# Altium footprint library PcbLib1.PcbLib: 10 footprints
Each footprint in its own frame and in the unit in brackets; x right, y up, seen from the top. Pads: shape width x height; smd on the part's side, far side on the other; paste and mask are expansions set on the pad; w line width, h text height; cw(c..) or ccw(c..) is an arc to the next point about the centre after c.
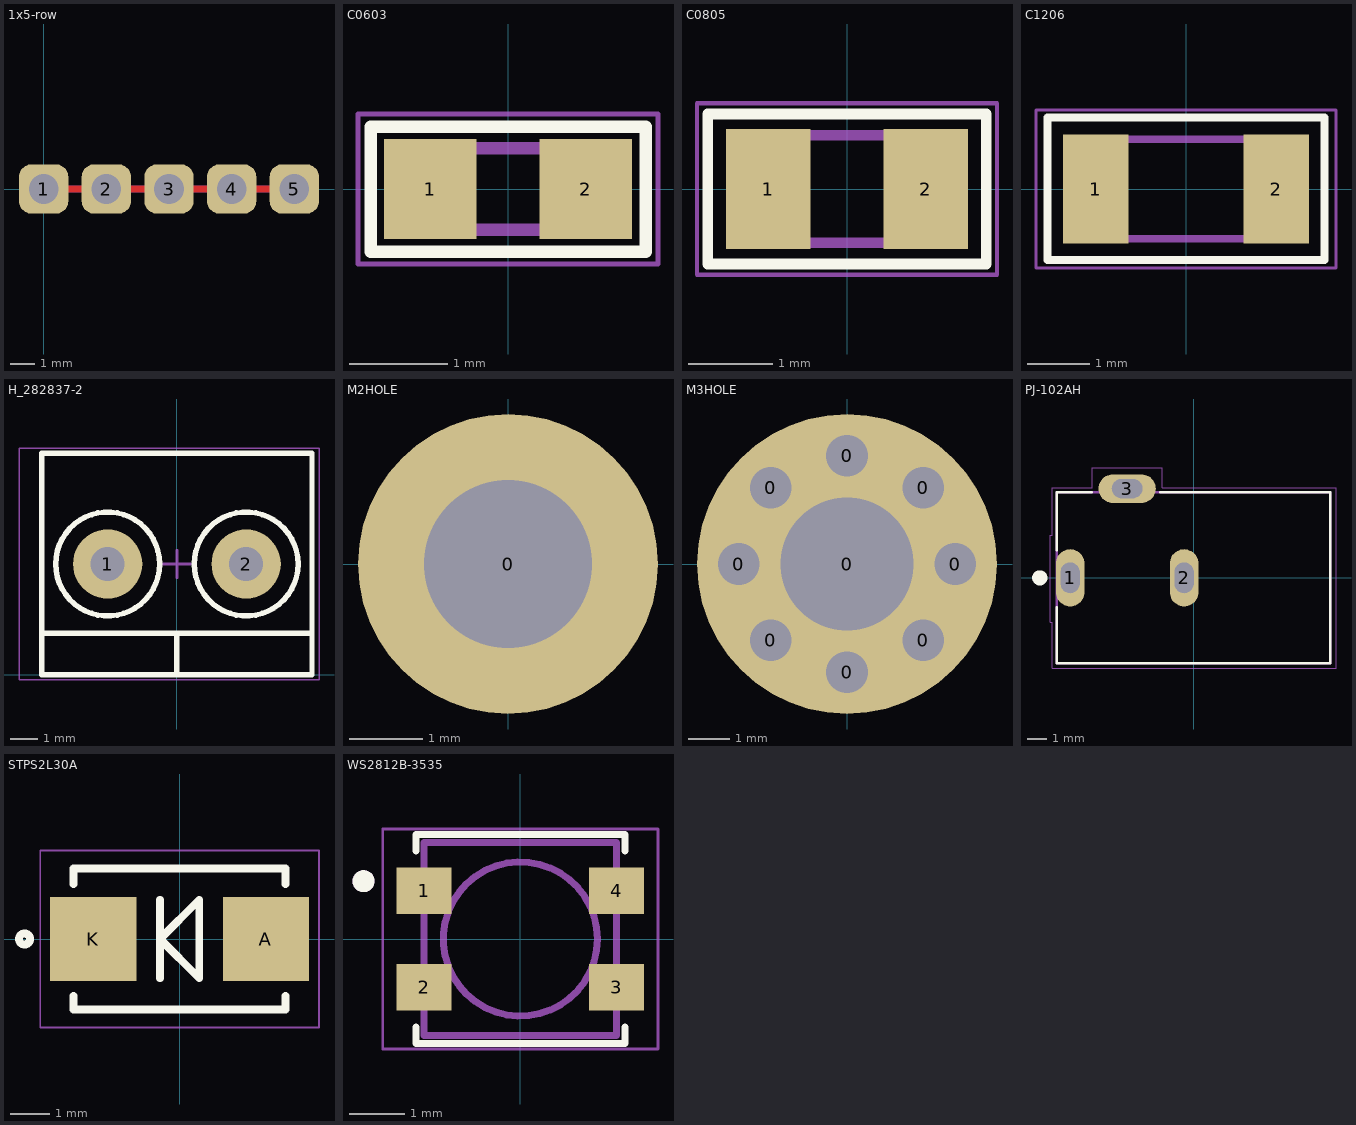
[diagram p0: the footprints below, top view; thin cyan lines are the x and y axes]

## 1x5-row [mm]
pads (5):
  rrect50% 2x2 hole 1.2: 1(0,0) 2(2.54,0) 3(5.08,0) 4(7.62,0) 5(10.16,0)
Top Layer:
  lines w0.3: 0,0 2.54,0 5.08,0 7.62,0 10.16,0
Bottom Layer:
  lines w0.3: 0,0 2.54,0 5.08,0 7.62,0 10.16,0

## C0603 [mm]
pads (2):
  rect 0.94x1.02 smd: 1(-0.79,0) 2(0.79,0)
Top Overlay:
  lines w0.127: -1.397,-0.635 1.397,-0.635 1.397,0.635 -1.397,0.635 -1.397,-0.635
Mechanical 4:
  lines w0.127: -0.813,-0.412 0.813,-0.412 0.813,0.412 -0.813,0.412 -0.813,-0.412
Mechanical 16:
  lines w0.05: -1.524,-0.762 1.524,-0.762 1.524,0.762 -1.524,0.762 -1.524,-0.762
3D body "CAP0603.STEP": height 0.82, standoff 0, extent -0.8,-0.412 0.8,0.412

## C0805 [mm]
pads (2):
  rect 1x1.42 smd: 1(-0.935,0) 2(0.935,0)
Top Overlay:
  lines w0.127: 1.651,0.889 1.651,-0.89 -1.651,-0.89 -1.651,-0.889 -1.651,0.889 1.651,0.89
Mechanical 4:
  lines w0.127: -1.016,-0.637 1.016,-0.637 1.016,0.637 -1.016,0.637 -1.016,-0.637
Mechanical 16:
  lines w0.05: -1.778,-1.016 1.778,-1.016 1.778,1.016 -1.778,1.016 -1.778,-1.016
3D body "CAP0805.STEP": height 1.27, standoff 0, extent -1,-0.637 1,0.637

## C1206 [mm]
pads (2):
  rect 1.05x1.75 smd: 1(-1.45,0) 2(1.45,0)
Top Overlay:
  lines w0.127: -2.225,-1.143 2.225,-1.143 2.225,1.15 -2.225,1.15 -2.225,-1.143
Mechanical 4:
  lines w0.127: -1.6,-0.8 1.6,-0.8 1.6,0.8 -1.6,0.8 -1.6,-0.8
Mechanical 16:
  lines w0.05: -2.413,-1.27 2.413,-1.27 2.413,1.27 -2.413,1.27 -2.413,-1.27
3D body "CAP1206-1.2mm.STEP": height 1.2, standoff 0, extent -1.6,-0.8 1.6,0.8

## H_282837-2 [mil] "TERMINAL BLOCK 2WAY"
pads (2):
  round 100 hole 49: 1(-100,160) 2(100,160)
Top Overlay:
  circle w7.87: c-100,160 r75
  circle w7.87: c100,160 r75
  lines w7.87: -195,60 195,60 ; 0,0 0,60 ; -195,0 -195,320 195,320 195,0 -195,0
Mechanical 15:
  lines w1.97: -227.95,-7.32 -227.95,327.32 205.12,327.32 205.12,-7.32 -227.95,-7.32
  lines w3.94: -19.68,160 19.68,160 ; 0,140.31 0,179.69
3D body "c-282837-2-g2-3d.stp": height 403.54, standoff -127.95, extent -221.81,-2.83 201.81,320

## M2HOLE [mm]
pads (1):
  round 4.1 hole 2.3 paste+0 mask+0: 0(0,0)

## M3HOLE [mm]
pads (9):
  round 2 hole 1 paste+0 mask+0: 0(-2.6,0) 0(-1.83,-1.83) 0(-1.83,1.83) 0(0,-2.6) 0(0,2.6) 0(1.83,-1.83) 0(1.83,1.83) 0(2.6,0)
  round 7.2 hole 3.2 paste+0 mask+0: 0(0,0)

## PJ-102AH [mm]
pads (3):
  oval 1.508x3.016 hole 1 slot 1.6 at 90 deg: 1(-6.5,0) 2(-0.5,0)
  oval 3.016x1.508 hole 1 slot 1.6 at 0 deg: 3(-3.5,4.7)
Top Overlay:
  circle w0.4: c-8.1,0 r0.2
  lines w0.127: -7.2,-1.55 -7.2,-4.5 7.2,-4.5 7.2,4.5 -1.75,4.5 ; -7.2,1.45 -7.2,4.5 -5.35,4.5
Mechanical 13:
  lines w0.127: -7.2,-4.5 -7.2,4.5 7.2,4.5 7.2,-4.5 -7.2,-4.5
Mechanical 15:
  lines w0.05: -7.55,-2.35 -7.45,-2.35 -7.45,-4.75 7.5,-4.75 7.5,4.75 -1.65,4.75 -1.65,5.8 -5.35,5.8 -5.35,4.75 -7.45,4.75 -7.45,2.25 -7.55,2.25 -7.55,-2.35
3D body "CUI_DEVICES_PJ-102AH.step": height 11.5, standoff -3, extent -7.2,-4.574 7.2,4.826

## STPS2L30A [mm]
pads (2):
  rect 2.2x2.15 smd: A(2.2,0) K(-2.2,0)
Top Overlay:
  circle w0.2: c-3.95,0 r0.141
  lines w0.2: -2.7,-1.45 -2.7,-1.8 2.7,-1.8 2.7,-1.45 ; -2.7,1.4 -2.7,1.8 2.7,1.8 2.7,1.4 ; -0.5,-1 -0.5,1 ; -0.5,0 0.5,1 0.5,-1 -0.5,0
Mechanical 16:
  lines w0.05: -3.55,-2.25 -3.55,2.25 3.55,2.25 3.55,-2.25 -3.55,-2.25

## WS2812B-3535 [mm]
pads (4):
  rect 1x0.85 smd: 1(-1.75,0.875) 2(-1.75,-0.875) 3(1.75,-0.875) 4(1.75,0.875)
Top Overlay:
  circle w0.2: c-2.85,1.05 r0.1
  lines w0.127: -1.9,-1.6 -1.9,-1.9 1.9,-1.9 1.9,-1.6 ; -1.9,1.6 -1.9,1.9 1.9,1.9 1.9,1.6
Mechanical 4:
  circle w0.127: c0,0 r1.4
  circle w0.2: c-2.85,1.05 r0.1
  circle w0.127: c0,0 r1.4
  circle w0.2: c-2.85,1.05 r0.1
  lines w0.127: -1.75,-1.75 1.75,-1.75 ; -1.75,-1.75 -1.75,1.75 ; -1.75,-1.75 1.75,-1.75 ; -1.75,-1.75 -1.75,1.75 ; -1.75,1.75 1.75,1.75 ; -1.75,1.75 1.75,1.75 ; 1.75,-1.75 1.75,1.75 ; 1.75,-1.75 1.75,1.75
Mechanical 16:
  lines w0.05: -2.5,-2 2.5,-2 2.5,2 -2.5,2 -2.5,-2
3D body "SMD WS2812B Mini.step": height 1.96, standoff 0.01, extent -1.84,-1.74 1.84,1.74